# Altium footprint library Molex.PcbLib: 4 footprints
Each footprint in its own frame and in the unit in brackets; x right, y up, seen from the top. Pads: shape width x height; smd on the part's side, far side on the other; paste and mask are expansions set on the pad; w line width, h text height; cw(c..) or ccw(c..) is an arc to the next point about the centre after c.
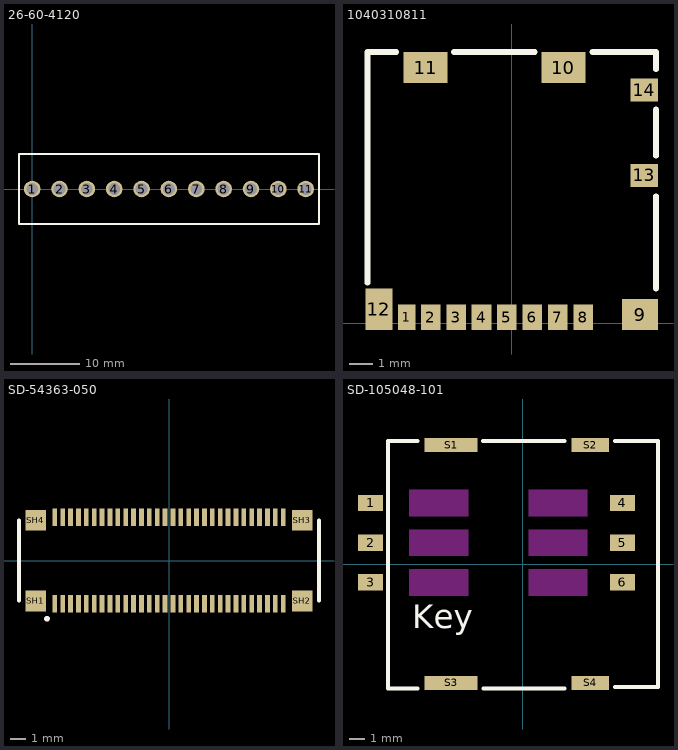
[diagram p0: the footprints below, top view; thin cyan lines are the x and y axes]

## 26-60-4120 [mm] "KK® 396 Header, Vertical, Friction Lock, 12 Circuits, Tin (Sn) Plating"
height 11.7
pads (11):
  round 2.4 hole 1.7: 1(0,0) 2(3.96,0) 3(7.92,0) 4(11.88,0) 5(15.84,0) 6(19.8,0) 7(23.76,0) 8(27.72,0) 9(31.68,0) 10(35.64,0) 11(39.6,0)
Top Overlay:
  lines w0.254: -1.905,-5.08 -1.905,5.08 41.529,5.08 41.529,-5.08 -1.905,-5.08
3D body: height 14.83, standoff -3.46, extent -1.905,-5.048 41.529,4.96

## 1040310811 [mm]
height 1.42
pads (14):
  rect 0.75x1.1 smd: 1(-4.545,0.25)
  rect 0.85x1.1 smd: 2(-3.505,0.25) 3(-2.405,0.25) 4(-1.305,0.25) 5(-0.205,0.25) 6(0.895,0.25) 7(1.995,0.25) 8(3.095,0.25)
  rect 1.55x1.35 smd: 9(5.565,0.375)
  rect 1.9x1.35 smd: 10(2.24,11.075) 11(-3.73,11.075)
  rect 1.17x1.8 smd: 12(-5.755,0.6)
  rect 1.2x1 smd: 13(5.74,6.4) 14(5.74,10.1)
Top Overlay:
  lines w0.254: -6.25,1.75 -6.25,11.75 -5,11.75 ; -2.5,11.75 1,11.75 ; 3.5,11.75 6.25,11.75 6.25,11 ; 6.25,1.5 6.25,5.5 ; 6.25,7.25 6.25,9.25
3D body: height 1.44, standoff -0.01, extent -5.975,0 5.975,11.4

## SD-54363-050 [mm] "0.50mm Pitch SlimStack™ Receptacle, Surface Mount, Dual Row, Vertical, 2.00 and 3.00mm Stacking Heights, with Solder Tabs, 60 Circuits, Lead-Free"
height 1.5
pads (64):
  rect 0.3x1.1 smd: 1(-7.25,-2.75) 2(-6.75,-2.75) 3(-6.25,-2.75) 4(-5.75,-2.75) 5(-5.25,-2.75) 6(-4.75,-2.75) 7(-4.25,-2.75) 8(-3.75,-2.75) 9(-3.25,-2.75) 10(-2.75,-2.75) 11(-2.25,-2.75) 12(-1.75,-2.75) 13(-1.25,-2.75) 14(-0.75,-2.75) 15(-0.25,-2.75) 16(0.25,-2.75) 17(0.75,-2.75) 18(1.25,-2.75) 19(1.75,-2.75) 20(2.25,-2.75) 21(2.75,-2.75) 22(3.25,-2.75) 23(3.75,-2.75) 24(4.25,-2.75) 25(4.75,-2.75) 26(5.25,-2.75) 27(5.75,-2.75) 28(6.25,-2.75) 29(6.75,-2.75) 30(7.25,-2.75) 31(7.25,2.75) 32(6.75,2.75) 33(6.25,2.75) 34(5.75,2.75) 35(5.25,2.75) 36(4.75,2.75) 37(4.25,2.75) 38(3.75,2.75) 39(3.25,2.75) 40(2.75,2.75) 41(2.25,2.75) 42(1.75,2.75) 43(1.25,2.75) 44(0.75,2.75) 45(0.25,2.75) 46(-0.25,2.75) 47(-0.75,2.75) 48(-1.25,2.75) 49(-1.75,2.75) 50(-2.25,2.75) 51(-2.75,2.75) 52(-3.25,2.75) 53(-3.75,2.75) 54(-4.25,2.75) 55(-4.75,2.75) 56(-5.25,2.75) 57(-5.75,2.75) 58(-6.25,2.75) 59(-6.75,2.75) 60(-7.25,2.75)
  rect 1.3x1.32 smd: SH1(-8.45,-2.56) SH2(8.45,-2.56) SH3(8.45,2.56) SH4(-8.45,2.56)
Top Overlay:
  circle w0.254: c-7.747,-3.683 r0.05
  lines w0.254: -9.525,-2.54 -9.525,2.54 ; 9.525,-2.54 9.525,2.54
3D body: height 1.5, standoff -0.05, extent -9.45,-3 9.45,3

## SD-105048-101 [mm] "SIM CARD HOLDER"
height 1.45
pads (10):
  rect 1.6x1.05 smd: 1(-9.742,3.9) 2(-9.742,1.36) 3(-9.742,-1.18) 4(6.358,3.9) 5(6.358,1.36) 6(6.358,-1.18)
  rect 3.4x0.9 smd: S1(-4.592,7.6) S3(-4.592,-7.6)
  rect 2.4x0.9 smd: S2(4.308,7.6) S4(4.308,-7.6)
Top Overlay:
  lines w0.254: -6.723,-7.964 -8.628,-7.964 -8.628,7.874 -6.723,7.874 ; -2.54,7.874 2.667,7.874 ; -2.532,-7.964 2.675,-7.964 ; 5.879,-7.874 8.636,-7.874 8.636,7.874 5.879,7.874
  text "Key" at -7.075,-4.101 h1.52
Keep-Out Layer:
  rectangle: -7.272,-2.03 -3.492,-0.33
  rectangle: -7.272,0.51 -3.492,2.21
  rectangle: -7.272,3.05 -3.492,4.75
  rectangle: 0.348,3.05 4.128,4.75
  rectangle: 0.348,0.51 4.128,2.21
  rectangle: 0.348,-2.03 4.128,-0.33
3D body: height 1.44, standoff -0.05, extent -10.3,-8.05 8.8,8.05